# Altium footprint library Amber.PcbLib: 63 footprints (part 3 of 4)
Each footprint in its own frame and in the unit in brackets; x right, y up, seen from the top. Pads: shape width x height; smd on the part's side, far side on the other; paste and mask are expansions set on the pad; w line width, h text height; cw(c..) or ccw(c..) is an arc to the next point about the centre after c.
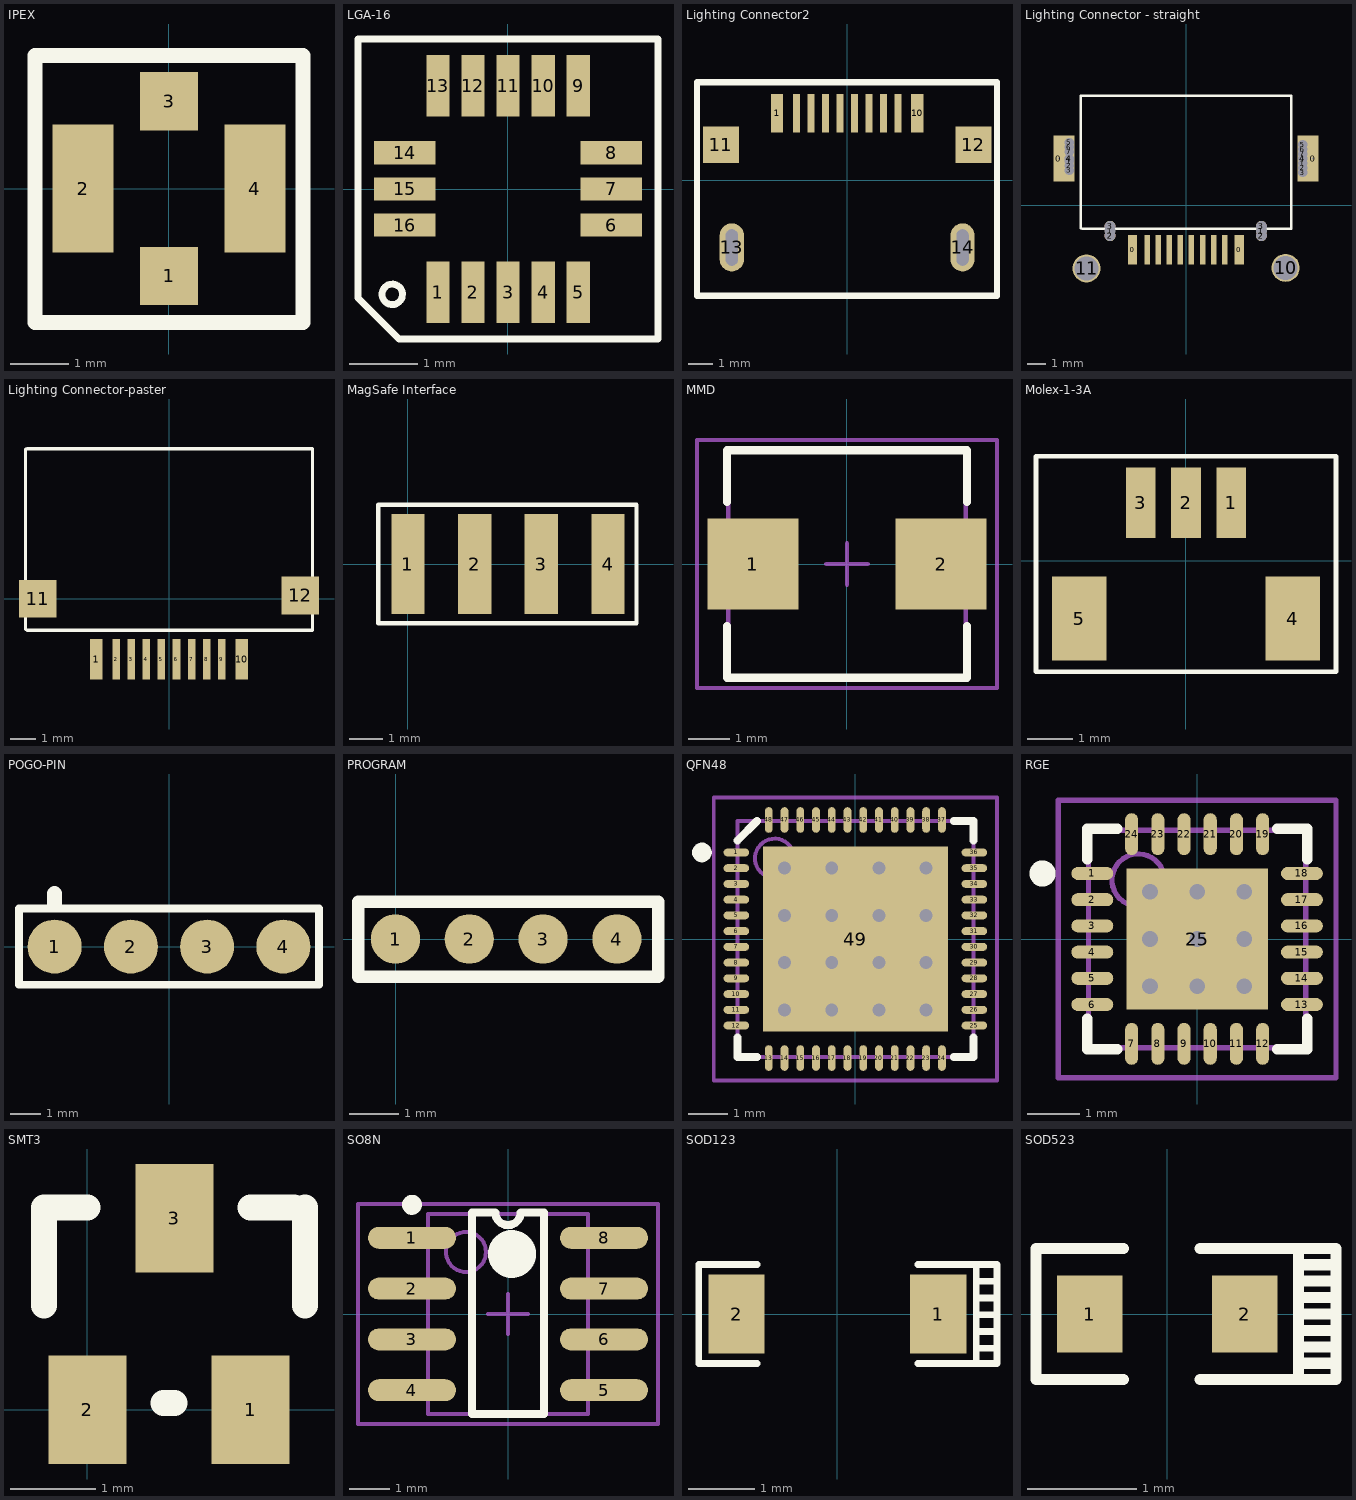
[diagram p2: the footprints below, top view; thin cyan lines are the x and y axes]

## IPEX [mm]
pads (4):
  rect 1x1 smd: 1(0,-1.5) 3(0,1.5)
  rect 1.05x2.2 smd: 2(-1.475,0) 4(1.475,0)
Top Overlay:
  lines w0.254: -2.3,2.286 -2.3,-2.3 2.3,-2.3 2.3,2.286 -2.286,2.286

## LGA-16 [mm]
pads (16):
  rect 0.34x0.9 smd: 1(-1.029,-1.514) 2(-0.514,-1.514) 3(0.001,-1.514) 4(0.516,-1.514) 5(1.031,-1.514) 9(1.031,1.514) 10(0.516,1.514) 11(0.001,1.514) 12(-0.514,1.514) 13(-1.029,1.514)
  rect 0.9x0.34 smd: 6(1.514,-0.529) 7(1.514,0.001) 8(1.514,0.531) 14(-1.514,0.531) 15(-1.514,0.001) 16(-1.514,-0.529)
Top Overlay:
  lines w0.1: -1.549,-1.524 ccw(c-1.698,-1.545) -1.548,-1.545 ; -2.2,-1.6 -2.2,2.2 2.2,2.2 2.2,-2.2 -1.6,-2.2 -2.2,-1.6
3D body: height 1, standoff 0, extent -2.065,-2.065 2.065,2.065

## Lighting Connector2 [mm]
pads (14):
  rect 0.5x1.6 smd: 1(-2.9,2.775) 10(2.9,2.775)
  rect 0.3x1.6 smd: 2(-2.1,2.775) 3(-1.5,2.775) 4(-0.9,2.775) 5(-0.3,2.775) 6(0.3,2.775) 7(0.9,2.775) 8(1.5,2.775) 9(2.1,2.775)
  rect 1.5x1.5 smd: 11(-5.225,1.475) 12(5.225,1.475)
  oval 1x2 hole 0.5 slot 1.5 at 90 deg: 13(-4.775,-2.775) 14(4.775,-2.775)
Top Overlay:
  lines w0.254: -6.214,-4.775 -6.214,4.064 ; -6.2,-4.775 6.2,-4.775 6.2,4.064 -6.2,4.064
3D body: height 3.1, standoff 0, extent -6.077,-3.877 6.077,3.677
3D body: height 0, standoff 0, extent -5.377,-3.877 5.377,-1.673

## Lighting Connector - straight [mm]
pads (34):
  rect 0.6x2.5 hole 0.1: 0(-6.906,2.545) 0(6.906,2.545)
  rect 0.5x1.6 smd: 0(-2.902,-2.417) 0(2.898,-2.417)
  rect 0.3x1.6 smd: 0(-2.102,-2.417) 0(-1.502,-2.417) 0(-0.902,-2.417) 0(-0.302,-2.417) 0(0.298,-2.417) 0(0.898,-2.417) 0(1.498,-2.417) 0(2.098,-2.417)
  round 0.5 hole 0.5: 1(-6.352,2.409) 1(6.352,2.291) 2(-6.352,2.155) 2(6.352,2.037) 3(-6.352,1.901) 3(6.352,1.783) 5(-6.352,3.425) 5(6.352,3.307) 6(-6.352,3.171) 6(6.352,3.053) 7(-6.352,2.917) 7(6.352,2.799)
  oval 0.5x0.6 hole 0.6 unplated: 1(-4.129,-1.393)
  round 0.6 hole 0.6 unplated: 1(4.099,-1.393) 2(-4.129,-1.647) 2(4.099,-1.647) 3(-4.129,-1.139) 3(4.099,-1.139)
  rect 0.6x2.5 hole 0.5: 4(-6.352,2.545) 4(6.352,2.545)
  round 1.524 hole 1.3: 10(5.416,-3.394) 11(-5.409,-3.424)
Top Overlay:
  lines w0.127: -5.721,-1.237 -5.721,5.959 ; -5.654,5.969 5.715,5.969 ; -5.648,-1.266 5.721,-1.266 ; 5.721,-1.237 5.721,5.959

## Lighting Connector-paster [mm]
pads (12):
  rect 0.5x1.6 smd: 1(-2.902,-2.417) 10(2.898,-2.417)
  rect 0.3x1.6 smd: 2(-2.102,-2.417) 3(-1.502,-2.417) 4(-0.902,-2.417) 5(-0.302,-2.417) 6(0.298,-2.417) 7(0.898,-2.417) 8(1.498,-2.417) 9(2.098,-2.417)
  rect 1.5x1.5 smd: 11(-5.225,-0.004) 12(5.225,0.123)
Top Overlay:
  lines w0.127: -5.721,-1.237 -5.721,5.959 ; -5.654,5.969 5.715,5.969 ; -5.648,-1.266 5.721,-1.266 ; 5.721,-1.237 5.721,5.959

## MagSafe Interface [mm]
pads (4):
  rect 1x3 smd: 1(0,0) 2(2,0) 3(4,0) 4(6,0)
Top Overlay:
  lines w0.127: -0.889,-1.778 -0.889,1.778 6.858,1.778 6.858,-1.778 -0.889,-1.778

## MMD [mm] "Molded Capacitor, 2-Leads, Body 5.5x5.2mm, IPC Medium Density"
height 1.8
pads (2):
  rect 2.2x2.2 smd: 1(-2.275,0) 2(2.275,0)
Top Overlay:
  lines w0.2: -2.9,-1.5 -2.9,-2.75 2.9,-2.75 2.9,-1.5 ; -2.9,1.5 -2.9,2.75 2.9,2.75 2.9,1.5
Mechanical 13:
  lines w0.1: -2.87,-2.715 2.87,-2.715 2.87,2.715 -2.87,2.715 -2.87,-2.715
Mechanical 15:
  lines w0.1: -0.5,0 0.5,0 ; 0,-0.5 0,0.5 ; -3.625,-3 3.625,-3 3.625,3 -3.625,3 -3.625,-3
3D body: height 1.8, standoff 0, extent -2.87,-2.715 2.87,2.715

## Molex-1-3A [mm]
pads (5):
  rect 0.65x1.55 smd: 1(1,1.275) 2(0,1.275) 3(-1,1.275)
  rect 1.2x1.85 smd: 4(2.35,-1.275) 5(-2.35,-1.275)
Top Overlay:
  lines w0.1: -3.3,-2.45 3.3,-2.45 3.3,2.3 -3.3,2.3 -3.3,-2.45
3D body: height 5.54, standoff 0, extent -3.052,-2.302 3.052,2.152

## POGO-PIN [mm] "厂家：TopLink，型号：100871-4"
pads (4):
  round 1.8 smd: 1(-3.81,0) 2(-1.27,0) 3(1.27,0) 4(3.81,0)
Top Overlay:
  lines w0.254: -5,-1.27 -5,1.27 5,1.27 5,-1.27 -5,-1.27
  lines w0.5: -3.81,1.397 -3.81,1.778

## PROGRAM [mm]
pads (4):
  round 1 smd: 1(0,0) 2(1.5,0) 3(3,0) 4(4.5,0)
Top Overlay:
  lines w0.254: -0.762,-0.762 -0.762,0.762 5.334,0.762 5.334,-0.762 -0.762,-0.762

## QFN48 [mm]
pads (49):
  oval 0.65x0.2 smd: 1(-3.025,2.2) 2(-3.025,1.8) 3(-3.025,1.4) 4(-3.025,1) 5(-3.025,0.6) 6(-3.025,0.2) 7(-3.025,-0.2) 8(-3.025,-0.6) 9(-3.025,-1) 10(-3.025,-1.4) 11(-3.025,-1.8) 12(-3.025,-2.2) 25(3.025,-2.2) 26(3.025,-1.8) 27(3.025,-1.4) 28(3.025,-1) 29(3.025,-0.6) 30(3.025,-0.2) 31(3.025,0.2) 32(3.025,0.6) 33(3.025,1) 34(3.025,1.4) 35(3.025,1.8) 36(3.025,2.2)
  oval 0.2x0.65 smd: 13(-2.2,-3.025) 14(-1.8,-3.025) 15(-1.4,-3.025) 16(-1,-3.025) 17(-0.6,-3.025) 18(-0.2,-3.025) 19(0.2,-3.025) 20(0.6,-3.025) 21(1,-3.025) 22(1.4,-3.025) 23(1.8,-3.025) 24(2.2,-3.025) 37(2.2,3.025) 38(1.8,3.025) 39(1.4,3.025) 40(1,3.025) 41(0.6,3.025) 42(0.2,3.025) 43(-0.2,3.025) 44(-0.6,3.025) 45(-1,3.025) 46(-1.4,3.025) 47(-1.8,3.025) 48(-2.2,3.025)
  rect 4.7x4.7 smd: 49(0,0)
via 1.8,-1.8 diameter 0.66 hole 0.33
via 0.6,-1.8 diameter 0.66 hole 0.33
via -0.6,-1.8 diameter 0.66 hole 0.33
via -1.8,-1.8 diameter 0.66 hole 0.33
via 1.8,-0.6 diameter 0.66 hole 0.33
via 0.6,-0.6 diameter 0.66 hole 0.33
via -0.6,-0.6 diameter 0.66 hole 0.33
via -1.8,-0.6 diameter 0.66 hole 0.33
via 1.8,0.6 diameter 0.66 hole 0.33
via 0.6,0.6 diameter 0.66 hole 0.33
via -0.6,0.6 diameter 0.66 hole 0.33
via -1.8,0.6 diameter 0.66 hole 0.33
via 1.8,1.8 diameter 0.66 hole 0.33
via 0.6,1.8 diameter 0.66 hole 0.33
via -0.6,1.8 diameter 0.66 hole 0.33
via -1.8,1.8 diameter 0.66 hole 0.33
Top Overlay:
  circle w0.25: c-3.9,2.2 r0.125
  lines w0.2: -3,-2.5 -3,-3 -2.5,-3 ; -3,2.5 -2.5,3 ; 2.5,-3 3,-3 3,-2.5 ; 2.5,3 3,3 3,2.5
Mechanical 13:
  circle w0.1: c-2.05,2.05 r0.5
  lines w0.1: -3,-3 3,-3 3,3 -3,3 -3,-3
Mechanical 15:
  lines w0.1: -0.5,0 0.5,0 ; 0,-0.5 0,0.5 ; -3.6,-3.6 3.6,-3.6 3.6,3.6 -3.6,3.6 -3.6,-3.6
3D body: height 0.9, standoff 0, extent -3,-3 3,3

## RGE [mm]
height 1
pads (25):
  oval 0.8x0.25 smd: 1(-2,1.25) 2(-2,0.75) 3(-2,0.25) 4(-2,-0.25) 5(-2,-0.75) 6(-2,-1.25) 13(2,-1.25) 14(2,-0.75) 15(2,-0.25) 16(2,0.25) 17(2,0.75) 18(2,1.25)
  oval 0.25x0.8 smd: 7(-1.25,-2) 8(-0.75,-2) 9(-0.25,-2) 10(0.25,-2) 11(0.75,-2) 12(1.25,-2) 19(1.25,2) 20(0.75,2) 21(0.25,2) 22(-0.25,2) 23(-0.75,2) 24(-1.25,2)
  rect 2.7x2.7 smd: 25(0,0)
via 0,0 diameter 0.6 hole 0.3
via 0,-0.9 diameter 0.6 hole 0.3
via 0,0.9 diameter 0.6 hole 0.3
via 0.9,0.9 diameter 0.6 hole 0.3
via 0.9,0 diameter 0.6 hole 0.3
via 0.9,-0.9 diameter 0.6 hole 0.3
via -0.9,-0.9 diameter 0.6 hole 0.3
via -0.9,0 diameter 0.6 hole 0.3
via -0.9,0.9 diameter 0.6 hole 0.3
Top Overlay:
  circle w0.25: c-2.95,1.25 r0.125
  lines w0.2: -2.1,-1.525 -2.1,-2.1 -1.525,-2.1 ; -2.1,1.525 -2.1,2.1 -1.525,2.1 ; 1.525,-2.1 2.1,-2.1 2.1,-1.525 ; 1.525,2.1 2.1,2.1 2.1,1.525
Mechanical 13:
  circle w0.1: c-1.125,1.125 r0.5
  lines w0.1: -2.075,-2.075 -2.075,2.075 2.075,2.075 2.075,-2.075 -2.075,-2.075
Mechanical 15:
  lines w0.1: -0.5,0 0.5,0 ; 0,-0.5 0,0.5 ; -2.65,-2.65 -2.65,2.65 2.65,2.65 2.65,-2.65 -2.65,-2.65
3D body: height 1, standoff 0.05, extent -2.075,-2.075 2.075,2.075

## SMT3 [mil]
pads (3):
  rect 36x50 smd: 1(75,0) 2(0,0) 3(40,88)
Top Overlay:
  lines w12: -20,48 -20,93 0,93 ; 35,3 40,3 ; 75,93 95,93 ; 100,48 100,93
3D body: height 37.4, standoff 0, extent -22,-29.01 97,116.99

## SO8N [mm]
height 1.75
pads (8):
  oval 2.2x0.55 smd: 1(-2.4,1.905) 2(-2.4,0.635) 3(-2.4,-0.635) 4(-2.4,-1.905) 5(2.4,-1.905) 6(2.4,-0.635) 7(2.4,0.635) 8(2.4,1.905)
Top Overlay:
  circle w0.6: c0.1,1.5 r0.3
  circle w0.25: c-2.4,2.73 r0.125
  lines w0.2: -0.9,2.5 -0.9,-2.5 0.9,-2.5 0.9,2.5
  lines w0.203: -0.9,2.54 -0.317,2.54 ccw(c0,2.54) 0.318,2.54 0.9,2.54
Mechanical 13:
  circle w0.1: c-1.05,1.55 r0.5
  lines w0.1: -2,-2.5 2,-2.5 2,2.5 -2,2.5 -2,-2.5
Mechanical 15:
  lines w0.1: -0.5,0 0.5,0 ; 0,-0.5 0,0.5 ; -3.75,-2.75 3.75,-2.75 3.75,2.75 -3.75,2.75 -3.75,-2.75
3D body: height 1.75, standoff 0.17, extent -2,-2.5 2,2.5

## SOD123 [mm] "厂家：ROHM，型号：RB161M-20"
pads (2):
  rect 0.85x1.2 smd: 1(1.525,0) 2(-1.525,0)
Top Overlay:
  lines w0.102: -1.215,-0.75 -2.1,-0.75 -2.1,0.75 -1.215,0.75 ; 1.215,-0.75 2.1,-0.75 ; 1.215,0.75 2.1,0.75 ; 2.1,-0.52 2.414,-0.52 ; 2.1,-0.266 2.414,-0.266 ; 2.1,-0.012 2.414,-0.012 ; 2.1,0.242 2.414,0.242 ; 2.1,0.496 2.414,0.496 ; 2.1,-0.75 2.1,0.75 ; 2.1,-0.75 2.414,-0.75 2.414,0.75 2.1,0.75

## SOD523 [mm]
pads (2):
  rect 0.6x0.7 smd: 1(-0.71,0) 2(0.71,0)
Top Overlay:
  lines w0.102: -0.4,-0.6 -1.2,-0.6 -1.2,0.6 -0.4,0.6 ; 0.3,-0.6 1.543,-0.6 1.543,0.6 0.3,0.6 ; 1.2,-0.6 1.2,0.6 ; 1.2,-0.45 1.514,-0.45 ; 1.21,-0.3 1.524,-0.3 ; 1.21,-0.15 1.524,-0.15 ; 1.21,0 1.524,0 ; 1.21,0.3 1.524,0.3 ; 1.229,0.15 1.543,0.15 ; 1.229,0.45 1.543,0.45
3D body: height 0.7, standoff 0, extent -1.377,-0.552 1.377,0.552